# Altium schematic symbol library S8B-PH-SM4-TB.SchLib: 1 symbol
Pins are listed as number, name and electrical type; pins without a type are passive.

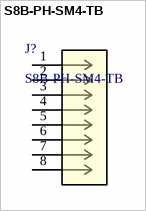
[diagram p0: symbol S8B-PH-SM4-TB]

## S8B-PH-SM4-TB
designator J?
Description; Manufacturer_Name: JST; Copyright: Copyright (C) 2025 Ultra Librarian. All rights reserved.; Manufacturer_Part_Number: S8B-PH-SM4-TB; RefDes: RefDes; Type: Type; Supplier 1: Arrow Electronics; Supplier Part Number 1: S8B-PH-SM4-TB(LF)(SN)
footprint CONN_S8B-PH-SM4-TB_JST
pins: 1, 2, 3, 4, 5, 6, 7, 8